# EAGLE library part AD524* (library mita-akiba)
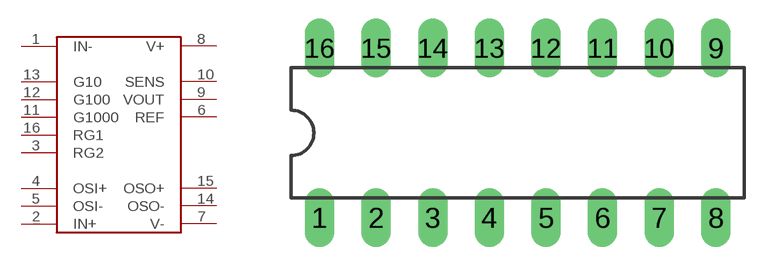
[diagram p33: symbol with the pads of DIL16; footprint DIL16]

Designator prefix -

## AD524N  [DIL16]
1  IN-
2  IN+
3  RG2
4  OSI+
5  OSI-
6  REF
7  V-
8  V+
9  VOUT
10  SENS
11  G1000
12  G100
13  G10
14  OSO-
15  OSO+
16  RG1

## Footprint DIL16 (pad centres in mm)
Dual In Line Package
drill 0.813 long: 1 -8.89,-3.81; 2 -6.35,-3.81; 3 -3.81,-3.81; 4 -1.27,-3.81; 5 1.27,-3.81; 6 3.81,-3.81; 7 6.35,-3.81; 8 8.89,-3.81; 9 8.89,3.81; 10 6.35,3.81; 11 3.81,3.81; 12 1.27,3.81; 13 -1.27,3.81; 14 -3.81,3.81; 15 -6.35,3.81; 16 -8.89,3.81